# EAGLE library part IM03GR (library IM03GR_v1)
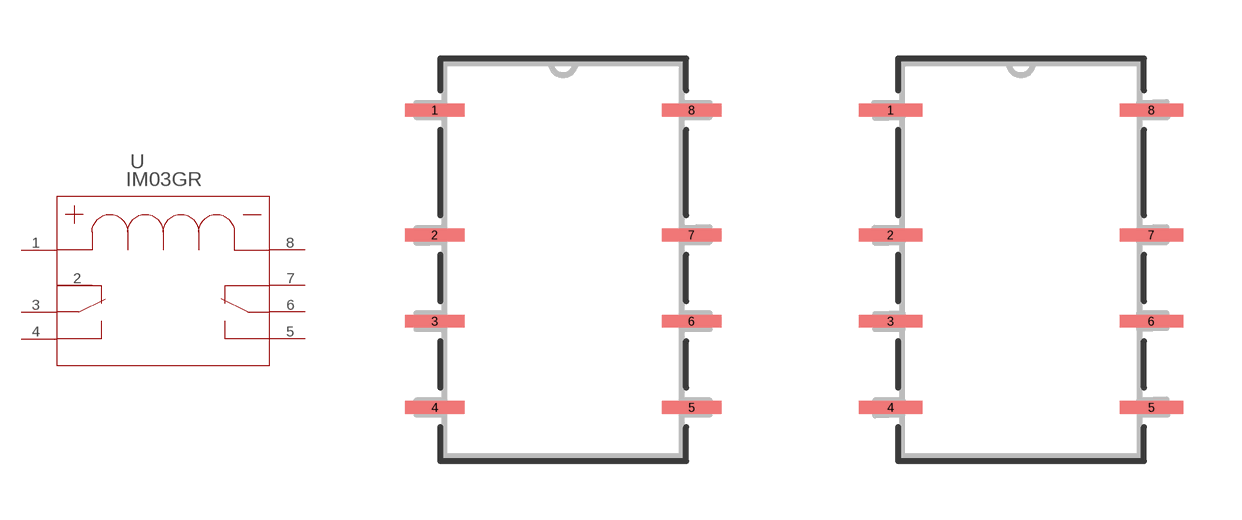
[diagram p0: symbol with the pads of RELAY8-239X396_230; footprints RELAY8-239X396_230, RELAY8-239X396_230-M]

Designator prefix U

## IM03GR (BUILT_BY: EMA_UL_Team; COPYRIGHT: Copyright (C) 2016 Accelerated Designs. All rights reserved; MANUFACTURER_PART_NUMBER: IM03GR; SOURCELIBRARY: Tyco_2012-1-03; VENDOR: TE Connectivity)  [RELAY8-239X396_230]
1  1  pas
2  2  pas
3  3  pas
4  4  pas
5  5  pas
6  6  pas
7  7  pas
8  8  pas

## IM03GRRELAY8-239X396_230-M (BUILT_BY: EMA_UL_Team; COPYRIGHT: Copyright (C) 2016 Accelerated Designs. All rights reserved; MANUFACTURER_PART_NUMBER: IM03GR; SOURCELIBRARY: Tyco_2012-1-03; VENDOR: TE Connectivity)  [RELAY8-239X396_230-M]
Pads as for RELAY8-239X396_230

## IM03GRRELAY8-239X396_230-L (BUILT_BY: EMA_UL_Team; COPYRIGHT: Copyright (C) 2016 Accelerated Designs. All rights reserved; MANUFACTURER_PART_NUMBER: IM03GR; SOURCELIBRARY: Tyco_2012-1-03; VENDOR: TE Connectivity)  [RELAY8-239X396_230-L]
Pads as for RELAY8-239X396_230

## Footprint RELAY8-239X396_230 (pad centres in mm)
smd 1.524 x 0.33: 1 -3.289,3.835; 2 -3.289,0.635; 3 -3.289,-1.575; 4 -3.289,-3.785; 5 3.289,-3.785; 6 3.289,-1.575; 7 3.289,0.635; 8 3.289,3.835

## Footprint RELAY8-239X396_230-M (pad centres in mm)
smd 1.626 x 0.33: 1 -3.34,3.835; 2 -3.34,0.635; 3 -3.34,-1.575; 4 -3.34,-3.785; 5 3.34,-3.785; 6 3.34,-1.575; 7 3.34,0.635; 8 3.34,3.835

## Footprint RELAY8-239X396_230-L (pad centres in mm)
smd 1.422 x 0.33: 1 -3.239,3.835; 2 -3.239,0.635; 3 -3.239,-1.575; 4 -3.239,-3.785; 5 3.239,-3.785; 6 3.239,-1.575; 7 3.239,0.635; 8 3.239,3.835